# Altium footprint library BERGSTAK.PcbLib: 8 footprints
Each footprint in its own frame and in the unit in brackets; x right, y up, seen from the top. Pads: shape width x height; smd on the part's side, far side on the other; paste and mask are expansions set on the pad; w line width, h text height; cw(c..) or ccw(c..) is an arc to the next point about the centre after c.
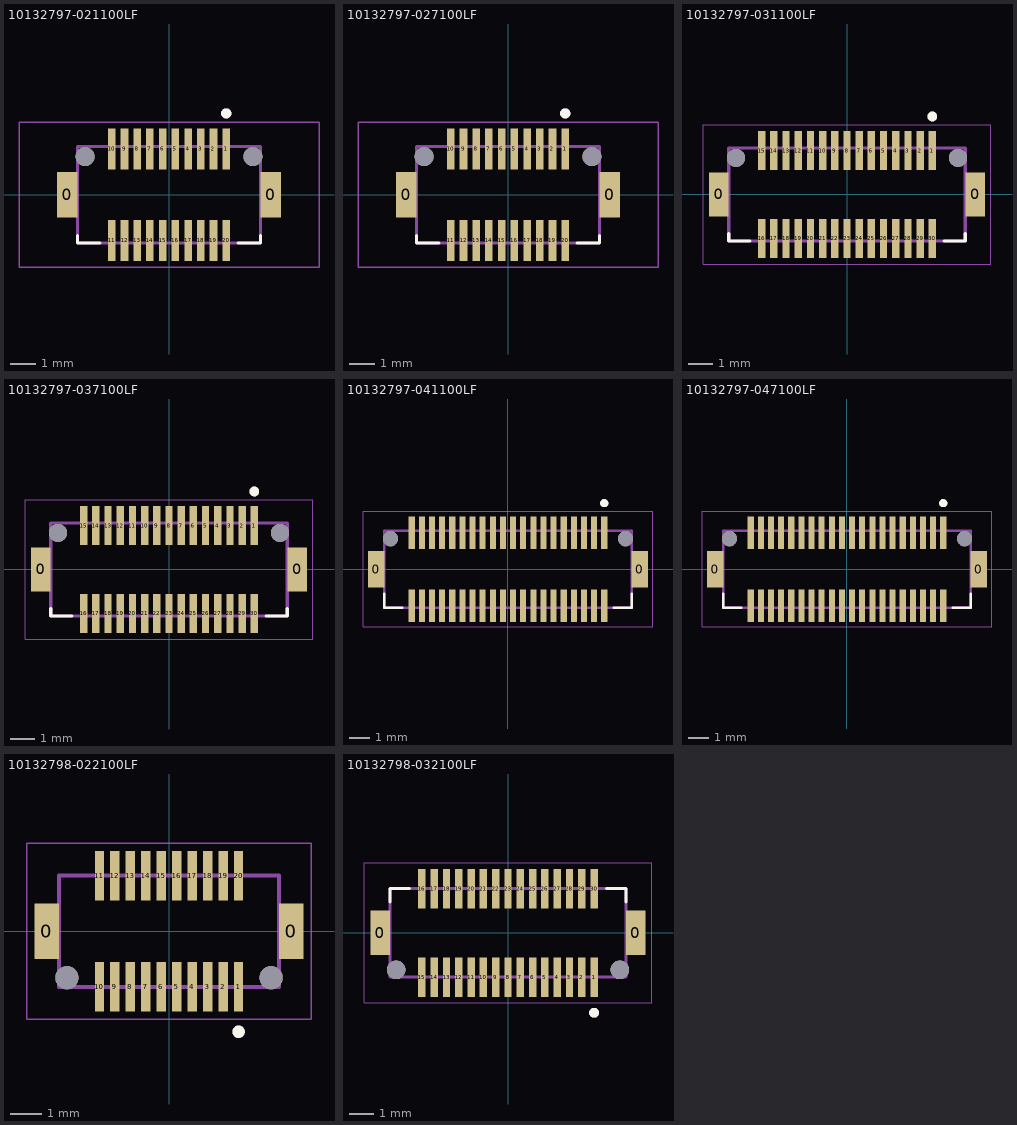
[diagram p0: the footprints below, top view; thin cyan lines are the x and y axes]

## 10132797-021100LF [mm] "CONN PLUG SMT 20-PIN 2 ROW 0.5MM TYPE 1"
height 2.3
pads (24):
  rect 0.8x1.8 smd paste+0 mask+0.102: 0(-4,0) 0(4,0)
  rect 0.3x1.6 smd paste+0 mask+0.102: 1(2.25,1.8) 2(1.75,1.8) 3(1.25,1.8) 4(0.75,1.8) 5(0.25,1.8) 6(-0.25,1.8) 7(-0.75,1.8) 8(-1.25,1.8) 9(-1.75,1.8) 10(-2.25,1.8) 11(-2.25,-1.8) 12(-1.75,-1.8) 13(-1.25,-1.8) 14(-0.75,-1.8) 15(-0.25,-1.8) 16(0.25,-1.8) 17(0.75,-1.8) 18(1.25,-1.8) 19(1.75,-1.8) 20(2.25,-1.8)
  round 0.75 hole 0.75 unplated mask+0: ""(-3.3,1.5) ""(3.3,1.5)
Top Overlay:
  circle w0.2: c2.25,3.2 r0.1
  lines w0.127: -3.6,-1.6 -3.6,-1.9 -2.72,-1.9 ; 2.72,-1.9 3.6,-1.9 3.6,-1.6
Mechanical 13:
  circle w0.2: c2.25,3.2 r0.1
  lines w0.127: -3.6,-1.9 -3.6,1.9 3.6,1.9 3.6,-1.9 -3.6,-1.9
Mechanical 15:
  lines w0.05: -5.9,-2.85 -5.9,2.85 5.9,2.85 5.9,-2.85 -5.9,-2.85
3D body "10132797-021100LF--3DModel-STEP-740395.STEP": height 2.45, standoff -0.5, extent -4,-2.3 4,2.3

## 10132797-027100LF [mm] "CONN PLUG SMT 20-PIN 2 ROW 0.5MM TYPE 7"
height 2.3
pads (24):
  rect 0.8x1.8 smd paste+0 mask+0.102: 0(-4,0) 0(4,0)
  rect 0.3x1.6 smd paste+0 mask+0.102: 1(2.25,1.8) 2(1.75,1.8) 3(1.25,1.8) 4(0.75,1.8) 5(0.25,1.8) 6(-0.25,1.8) 7(-0.75,1.8) 8(-1.25,1.8) 9(-1.75,1.8) 10(-2.25,1.8) 11(-2.25,-1.8) 12(-1.75,-1.8) 13(-1.25,-1.8) 14(-0.75,-1.8) 15(-0.25,-1.8) 16(0.25,-1.8) 17(0.75,-1.8) 18(1.25,-1.8) 19(1.75,-1.8) 20(2.25,-1.8)
  round 0.75 hole 0.75 unplated mask+0: ""(-3.3,1.5) ""(3.3,1.5)
Top Overlay:
  circle w0.2: c2.25,3.2 r0.1
  lines w0.127: -3.6,-1.6 -3.6,-1.9 -2.72,-1.9 ; 2.72,-1.9 3.6,-1.9 3.6,-1.6
Mechanical 13:
  circle w0.2: c2.25,3.2 r0.1
  lines w0.127: -3.6,-1.9 -3.6,1.9 3.6,1.9 3.6,-1.9 -3.6,-1.9
Mechanical 15:
  lines w0.05: -5.9,-2.85 -5.9,2.85 5.9,2.85 5.9,-2.85 -5.9,-2.85
3D body "10132797-027100LF--3DModel-STEP-740395.STEP": height 5.45, standoff -0.5, extent -4,-2.3 4,2.3

## 10132797-031100LF [mm] "CONN PLUG SMT 30-PIN 2 ROW 0.5MM TYPE 1"
height 2.3
pads (34):
  rect 0.8x1.8 smd paste+0 mask+0.102: 0(-5.25,0) 0(5.25,0)
  rect 0.3x1.6 smd paste+0 mask+0.102: 1(3.5,1.8) 2(3,1.8) 3(2.5,1.8) 4(2,1.8) 5(1.5,1.8) 6(1,1.8) 7(0.5,1.8) 8(0,1.8) 9(-0.5,1.8) 10(-1,1.8) 11(-1.5,1.8) 12(-2,1.8) 13(-2.5,1.8) 14(-3,1.8) 15(-3.5,1.8) 16(-3.5,-1.8) 17(-3,-1.8) 18(-2.5,-1.8) 19(-2,-1.8) 20(-1.5,-1.8) 21(-1,-1.8) 22(-0.5,-1.8) 23(0,-1.8) 24(0.5,-1.8) 25(1,-1.8) 26(1.5,-1.8) 27(2,-1.8) 28(2.5,-1.8) 29(3,-1.8) 30(3.5,-1.8)
  round 0.75 hole 0.75 unplated mask+0: ""(-4.55,1.5) ""(4.55,1.5)
Top Overlay:
  circle w0.2: c3.5,3.2 r0.1
  lines w0.127: -4.85,-1.6 -4.85,-1.9 -3.97,-1.9 ; 3.97,-1.9 4.85,-1.9 4.85,-1.6
Mechanical 13:
  circle w0.2: c3.5,3.2 r0.1
  lines w0.127: -4.85,-1.9 -4.85,1.9 4.85,1.9 4.85,-1.9 -4.85,-1.9
Mechanical 15:
  lines w0.05: -5.9,-2.85 -5.9,2.85 5.9,2.85 5.9,-2.85 -5.9,-2.85
3D body "step_temp.STEP": height 2.45, standoff -0.5, extent -5.25,-2.3 5.25,2.3

## 10132797-037100LF [mm] "CONN PLUG SMT 30-PIN 2 ROW 0.5MM TYPE 7"
height 5.3
pads (34):
  rect 0.8x1.8 smd paste+0 mask+0.102: 0(-5.25,0) 0(5.25,0)
  rect 0.3x1.6 smd paste+0 mask+0.102: 1(3.5,1.8) 2(3,1.8) 3(2.5,1.8) 4(2,1.8) 5(1.5,1.8) 6(1,1.8) 7(0.5,1.8) 8(0,1.8) 9(-0.5,1.8) 10(-1,1.8) 11(-1.5,1.8) 12(-2,1.8) 13(-2.5,1.8) 14(-3,1.8) 15(-3.5,1.8) 16(-3.5,-1.8) 17(-3,-1.8) 18(-2.5,-1.8) 19(-2,-1.8) 20(-1.5,-1.8) 21(-1,-1.8) 22(-0.5,-1.8) 23(0,-1.8) 24(0.5,-1.8) 25(1,-1.8) 26(1.5,-1.8) 27(2,-1.8) 28(2.5,-1.8) 29(3,-1.8) 30(3.5,-1.8)
  round 0.75 hole 0.75 unplated mask+0: ""(-4.55,1.5) ""(4.55,1.5)
Top Overlay:
  circle w0.2: c3.5,3.2 r0.1
  lines w0.127: -4.85,-1.6 -4.85,-1.9 -3.97,-1.9 ; 3.97,-1.9 4.85,-1.9 4.85,-1.6
Mechanical 13:
  circle w0.2: c3.5,3.2 r0.1
  lines w0.127: -4.85,-1.9 4.85,-1.9 4.85,1.9 -4.85,1.9 -4.85,-1.9
Mechanical 15:
  lines w0.05: -5.9,-2.85 5.9,-2.85 5.9,2.85 -5.9,2.85 -5.9,-2.85
3D body "10132797-037100LF--3DModel-STEP-740395.STEP": height 5.45, standoff -0.5, extent -5.25,-2.3 5.25,2.3

## 10132797-041100LF [mm] "CONN PLUG SMT 40-PIN 2 ROW 0.5MM TYPE 1"
height 2.3
pads (44):
  rect 0.8x1.8 smd paste+0 mask+0.102: 0(-6.5,0) 0(6.5,0)
  rect 0.3x1.6 smd paste+0 mask+0.102: 1(4.75,1.8) 2(4.25,1.8) 3(3.75,1.8) 4(3.25,1.8) 5(2.75,1.8) 6(2.25,1.8) 7(1.75,1.8) 8(1.25,1.8) 9(0.75,1.8) 10(0.25,1.8) 11(-0.25,1.8) 12(-0.75,1.8) 13(-1.25,1.8) 14(-1.75,1.8) 15(-2.25,1.8) 16(-2.75,1.8) 17(-3.25,1.8) 18(-3.75,1.8) 19(-4.25,1.8) 20(-4.75,1.8) 21(-4.75,-1.8) 22(-4.25,-1.8) 23(-3.75,-1.8) 24(-3.25,-1.8) 25(-2.75,-1.8) 26(-2.25,-1.8) 27(-1.75,-1.8) 28(-1.25,-1.8) 29(-0.75,-1.8) 30(-0.25,-1.8) 31(0.25,-1.8) 32(0.75,-1.8) 33(1.25,-1.8) 34(1.75,-1.8) 35(2.25,-1.8) 36(2.75,-1.8) 37(3.25,-1.8) 38(3.75,-1.8) 39(4.25,-1.8) 40(4.75,-1.8)
  round 0.75 hole 0.75 unplated mask+0: ""(-5.8,1.5) ""(5.8,1.5)
Top Overlay:
  circle w0.2: c4.75,3.25 r0.1
  lines w0.127: -6.1,-1.22 -6.1,-1.9 -5.22,-1.9 ; 5.22,-1.9 6.1,-1.9 6.1,-1.22
Mechanical 13:
  circle w0.2: c4.75,3.25 r0.1
  lines w0.127: -6.1,-1.9 6.1,-1.9 6.1,1.9 -6.1,1.9 -6.1,-1.9
Mechanical 15:
  lines w0.05: -7.15,-2.85 7.15,-2.85 7.15,2.85 -7.15,2.85 -7.15,-2.85
3D body "10132797-041100LF.STEP": height 2.45, standoff -0.5, extent -6.5,-2.3 6.5,2.3

## 10132797-047100LF [mm] "CONN PLUG SMT 40-PIN 2 ROW 0.5MM TYPE 7"
height 5.3
pads (44):
  rect 0.8x1.8 smd paste+0 mask+0.102: 0(-6.5,0) 0(6.5,0)
  rect 0.3x1.6 smd paste+0 mask+0.102: 1(4.75,1.8) 2(4.25,1.8) 3(3.75,1.8) 4(3.25,1.8) 5(2.75,1.8) 6(2.25,1.8) 7(1.75,1.8) 8(1.25,1.8) 9(0.75,1.8) 10(0.25,1.8) 11(-0.25,1.8) 12(-0.75,1.8) 13(-1.25,1.8) 14(-1.75,1.8) 15(-2.25,1.8) 16(-2.75,1.8) 17(-3.25,1.8) 18(-3.75,1.8) 19(-4.25,1.8) 20(-4.75,1.8) 21(-4.75,-1.8) 22(-4.25,-1.8) 23(-3.75,-1.8) 24(-3.25,-1.8) 25(-2.75,-1.8) 26(-2.25,-1.8) 27(-1.75,-1.8) 28(-1.25,-1.8) 29(-0.75,-1.8) 30(-0.25,-1.8) 31(0.25,-1.8) 32(0.75,-1.8) 33(1.25,-1.8) 34(1.75,-1.8) 35(2.25,-1.8) 36(2.75,-1.8) 37(3.25,-1.8) 38(3.75,-1.8) 39(4.25,-1.8) 40(4.75,-1.8)
  round 0.75 hole 0.75 unplated mask+0: ""(-5.8,1.5) ""(5.8,1.5)
Top Overlay:
  circle w0.2: c4.75,3.25 r0.1
  lines w0.127: -6.1,-1.22 -6.1,-1.9 -5.22,-1.9 ; 5.22,-1.9 6.1,-1.9 6.1,-1.22
Mechanical 13:
  circle w0.2: c4.75,3.25 r0.1
  lines w0.127: -6.1,-1.9 6.1,-1.9 6.1,1.9 -6.1,1.9 -6.1,-1.9
Mechanical 15:
  lines w0.05: -7.15,-2.85 7.15,-2.85 7.15,2.85 -7.15,2.85 -7.15,-2.85
3D body "10132797-047100LF--3DModel-STEP-740395.STEP": height 5.45, standoff -0.5, extent -6.5,-2.3 6.5,2.3

## 10132798-022100LF [mm] "CONN JACK SMT 20-PIN 2 ROW 0.5MM TYPE 2"
height 2.7
pads (24):
  rect 0.8x1.8 smd paste+0 mask+0.102: 0(-3.95,0) 0(3.95,0)
  rect 0.3x1.6 smd paste+0 mask+0.102: 1(2.25,-1.8) 2(1.75,-1.8) 3(1.25,-1.8) 4(0.75,-1.8) 5(0.25,-1.8) 6(-0.25,-1.8) 7(-0.75,-1.8) 8(-1.25,-1.8) 9(-1.75,-1.8) 10(-2.25,-1.8) 11(-2.25,1.8) 12(-1.75,1.8) 13(-1.25,1.8) 14(-0.75,1.8) 15(-0.25,1.8) 16(0.25,1.8) 17(0.75,1.8) 18(1.25,1.8) 19(1.75,1.8) 20(2.25,1.8)
  round 0.75 hole 0.75 unplated mask+0: ""(-3.3,-1.5) ""(3.3,-1.5)
Top Overlay:
  circle w0.2: c2.25,-3.25 r0.1
Mechanical 13:
  circle w0.2: c2.25,-3.25 r0.1
  lines w0.127: -3.55,-1.8 3.55,-1.8 3.55,1.8 -3.55,1.8 -3.55,-1.8
Mechanical 15:
  lines w0.05: -4.6,-2.85 4.6,-2.85 4.6,2.85 -4.6,2.85 -4.6,-2.85
3D body "10132798-022100lf.stp": height 2.6, standoff -0.5, extent -4,-2.3 4,2.3

## 10132798-032100LF [mm] "CONN JACK SMT 30-PIN 2 ROW 0.5MM TYPE 2"
height 2.7
pads (34):
  rect 0.8x1.8 smd paste+0 mask+0.102: 0(-5.2,0) 0(5.2,0)
  rect 0.3x1.6 smd paste+0 mask+0.102: 1(3.5,-1.8) 2(3,-1.8) 3(2.5,-1.8) 4(2,-1.8) 5(1.5,-1.8) 6(1,-1.8) 7(0.5,-1.8) 8(0,-1.8) 9(-0.5,-1.8) 10(-1,-1.8) 11(-1.5,-1.8) 12(-2,-1.8) 13(-2.5,-1.8) 14(-3,-1.8) 15(-3.5,-1.8) 16(-3.5,1.8) 17(-3,1.8) 18(-2.5,1.8) 19(-2,1.8) 20(-1.5,1.8) 21(-1,1.8) 22(-0.5,1.8) 23(0,1.8) 24(0.5,1.8) 25(1,1.8) 26(1.5,1.8) 27(2,1.8) 28(2.5,1.8) 29(3,1.8) 30(3.5,1.8)
  round 0.75 hole 0.75 unplated mask+0: ""(-4.55,-1.5) ""(4.55,-1.5)
Top Overlay:
  circle w0.2: c3.5,-3.25 r0.1
  lines w0.127: -4.8,1.25 -4.8,1.8 -4,1.8 ; 4,1.8 4.8,1.8 4.8,1.25
Mechanical 13:
  circle w0.2: c3.5,-3.25 r0.1
  lines w0.127: -4.8,-1.8 -4.8,1.8 4.8,1.8 4.8,-1.8 -4.8,-1.8
Mechanical 15:
  lines w0.05: -5.85,-2.85 -5.85,2.85 5.85,2.85 5.85,-2.85 -5.85,-2.85
3D body "10132798-032100LF.STEP": height 2.7, standoff -0.5, extent -5.3,-2.3 5.3,2.3